# EAGLE library part MEC6 (library mec6)
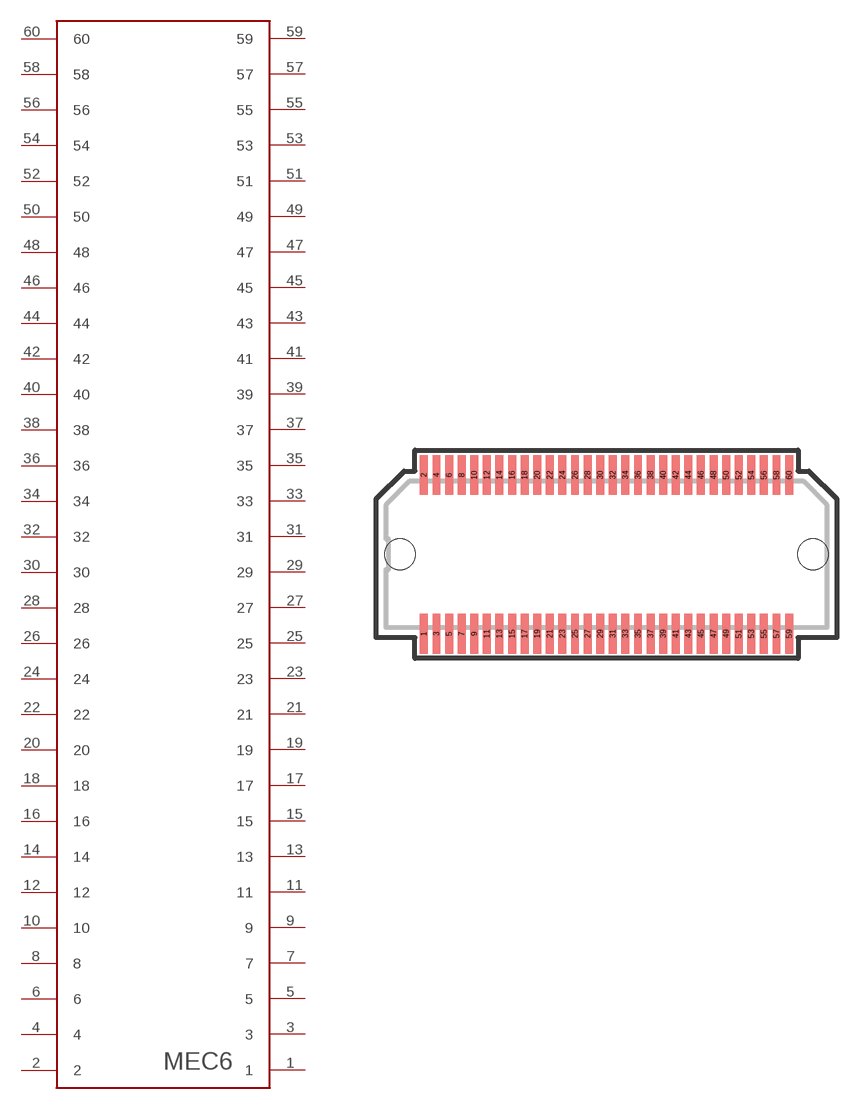
[diagram p0: symbol with the pads of MEC6-130-02-X-D-RA1; footprint MEC6-130-02-X-D-RA1]

Designator prefix -

## MEC6  [MEC6-130-02-X-D-RA1]
1  1
2  2
3  3
4  4
5  5
6  6
7  7
8  8
9  9
10  10
11  11
12  12
13  13
14  14
15  15
16  16
17  17
18  18
19  19
20  20
21  21
22  22
23  23
24  24
25  25
26  26
27  27
28  28
29  29
30  30
31  31
32  32
33  33
34  34
35  35
36  36
37  37
38  38
39  39
40  40
41  41
42  42
43  43
44  44
45  45
46  46
47  47
48  48
49  49
50  50
51  51
52  52
53  53
54  54
55  55
56  56
57  57
58  58
59  59
60  60

## Footprint MEC6-130-02-X-D-RA1 (pad centres in mm)
PCB Libraries Package
smd 0.4 x 2: 1 -9.208,-4; 2 -9.208,4; 3 -8.573,-4; 4 -8.573,4; 5 -7.938,-4; 6 -7.938,4; 7 -7.302,-4; 8 -7.302,4; 9 -6.668,-4; 10 -6.668,4; 11 -6.032,-4; 12 -6.032,4; 13 -5.398,-4; 14 -5.398,4; 15 -4.762,-4; 16 -4.762,4; 17 -4.128,-4; 18 -4.128,4; 19 -3.493,-4; 20 -3.493,4; 21 -2.858,-4; 22 -2.858,4; 23 -2.223,-4; 24 -2.223,4; 25 -1.587,-4; 26 -1.587,4; 27 -0.952,-4; 28 -0.952,4; 29 -0.317,-4; 30 -0.317,4; 31 0.317,-4; 32 0.317,4; 33 0.952,-4; 34 0.952,4; 35 1.587,-4; 36 1.587,4; 37 2.223,-4; 38 2.223,4; 39 2.858,-4; 40 2.858,4; 41 3.493,-4; 42 3.493,4; 43 4.128,-4; 44 4.128,4; 45 4.762,-4; 46 4.762,4; 47 5.398,-4; 48 5.398,4; 49 6.032,-4; 50 6.032,4; 51 6.668,-4; 52 6.668,4; 53 7.302,-4; 54 7.302,4; 55 7.938,-4; 56 7.938,4; 57 8.573,-4; 58 8.573,4; 59 9.208,-4; 60 9.208,4
hole 1.55 at -10.41,0
hole 1.55 at 10.41,0